# EAGLE library part GTL2002D (library Fitch_Eagle_Library)
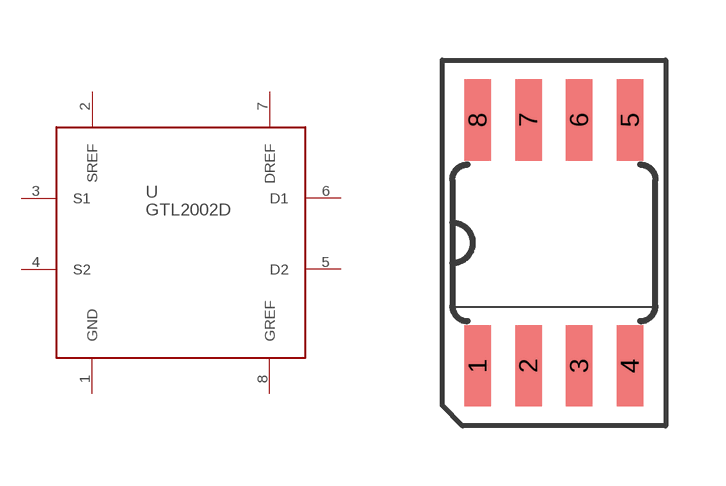
[diagram p23: symbol with the pads of 8-SOIC; footprint 8-SOIC]

Designator prefix -

## GTL2002D  [8-SOIC]
1  GND
2  SREF
3  S1
4  S2
5  D2
6  D1
7  DREF
8  GREF

## Footprint 8-SOIC (pad centres in mm)
smd 0.66 x 2.032: 1 -1.905,-3.073; 2 -0.635,-3.073; 3 0.635,-3.073; 4 1.905,-3.073; 5 1.905,3.073; 6 0.635,3.073; 7 -0.635,3.073; 8 -1.905,3.073